# EAGLE library part S11P (library con_io_sxp)
AMP MT CONNECTOR
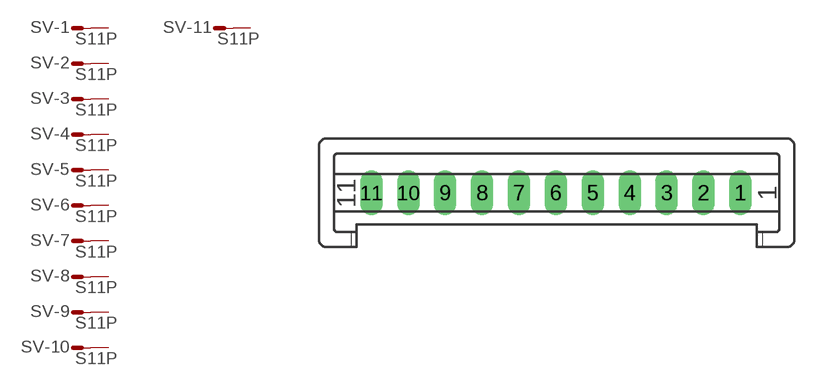
[diagram p5: symbol with the pads of S11P; footprint S11P]

Designator prefix SV; gates -1=M -2=M -3=M -4=M -5=M -6=M -7=M -8=M -9=M -10=M -11=M

## S11P  [S11P]
1  -1:S  pas
2  -2:S  pas
3  -3:S  pas
4  -4:S  pas
5  -5:S  pas
6  -6:S  pas
7  -7:S  pas
8  -8:S  pas
9  -9:S  pas
10  -10:S  pas
11  -11:S  pas

## Footprint S11P (pad centres in mm)
AMP MT CONNECTOR
drill 1.016 long: 1 12.5,0; 2 10,0; 3 7.5,0; 4 5,0; 5 2.5,0; 6 0,0; 7 -2.5,0; 8 -5,0; 9 -7.5,0; 10 -10,0; 11 -12.5,0